# Altium integrated library Relays.IntLib: 3 symbols
Pins are listed as number, name and electrical type; pins without a type are passive.

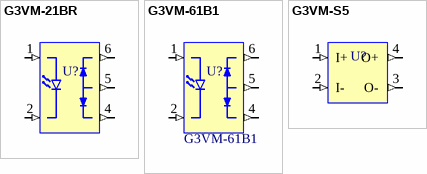
[diagram p0: symbols G3VM-21BR to G3VM-S5]

## G3VM-21BR
designator U?  (value not drawn)
Relay, SSR SPST-NO, 4A, 20V, 6-DIP; Manufacturer: OMRON; Relay Style: Solid State Relays; Output Type: AC, DC; On-State Resistance: 50mOhm; Voltage (Input): 1.33VDC; Voltage (Load): 0-20V; Package Reference: 6-DIP; Circuit: SPST-NO; Load Current: 4A; Supplier 1: Mouser; Supplier Part Number 1: 653-G3VM-21BR; Supplier 2: Digi-Key; Supplier Part Number 2: Z3520-ND; PackageDescription: DIP, 6-Leads, 0.300" lead span , 0.100" lead pitch; Part Number: G3VM-21BR
footprint 6-DIP (DIP, 6-Leads, 0.300" lead span , 0.100" lead pitch)
pins: 1 (in), 2 (in), 4 (out), 5 (out), 6 (out)

## G3VM-61B1
designator U?
Relay, SSR SPST-NO, 500mA, 60V, 6-DIP; Manufacturer: OMRON; Relay Style: Solid State Relays; Output Type: AC, DC; On-State Resistance: 2 Ohm; Load Current: 4A; Voltage (Input): 1.15VDC; Voltage (Load): 0-60V; Package Reference: 6-DIP; Circuit: SPST-NO; PackageDescription: DIP, 6 leads, .100" pitch; Supplier 1: Mouser; Supplier Part Number 1: 653-G3VM-61B1; Supplier 2: TME; Supplier Part Number 2: G3VM-61B1; Supplier 3: Allied; Supplier Part Number 3: 70175600; Supplier 4: Digi-Key; Supplier Part Number 4: Z2102-ND; Part Number: G3VM-61B1
footprint 6-DIP (DIP, 6-Leads, 0.300" lead span , 0.100" lead pitch)
pins: 1 (in), 2 (in), 4 (out), 5 (out), 6 (out)

## G3VM-S5
designator U?  (value not drawn)
Relay, SSR SPST, 150mA, 200V, Surface mount, SOP-4; Manufacturer: OMRON; Relay Style: Solid State Relays; Circuit: SPST-NO; Output Type: AC, DC; On-State Resistance: 8 ohm; Voltage (Input): 1.15VDC; Voltage (Load): 0-200V; Package Reference: 4-SOP; Load Current: 150mA; Supplier 1: Mouser; Supplier Part Number 1: 653-G3VM-S5; Supplier 2: Digi-Key; Supplier Part Number 2: Z162-ND; PackageDescription: SOIC/SOP, 4-Leads, Body 4.9x3.9mm, Pitch 1.27mm
footprint 4-SOP (SOIC/SOP, 4-Leads, Body 4.9x3.9mm, Pitch 1.27mm)
pins: 1 I+ (in), 2 I- (in), 3 O- (out), 4 O+ (out)